# Altium schematic symbol library SchLib.SCHLIB: 1 symbol
Pins are listed as number, name and electrical type; pins without a type are passive.

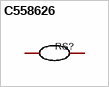
[diagram p0: symbol C558626]

## C558626
designator RS?, comment HolRS3920-5W-0.3mR-1%  (value not drawn)
Manufacturer: Milliohm(毫欧); Name: 0.3mΩ; Add into BOM: yes; Value: 0.3mΩ; Tolerance: ±1%; Power(Watts): 5W; Symbol: HOLRS3920-5W-0.3MR-1%; Device: HolRS3920-5W-0.3mR-1%; LCSC Part Name: 0.3mΩ ±1% 5W; Supplier Part: C558626; Manufacturer Part: HolRS3920-5W-0.3mR-1%; Supplier Footprint: 3920; JLCPCB Part Class: Extended Part; Datasheet: https://atta.szlcsc.com/upload/public/pdf/source/20200522/C558625_7915B34B9186274EB7EA9862EBA9CEA8.pdf; Supplier: LCSC; Convert to PCB: yes
3D model R3920
footprint R3920
footprint R3920
pins: 1, 2